# EAGLE library part LPC1313FBD48/01 (library LPC1313)
CORTEX-M MICROCONTROLLER
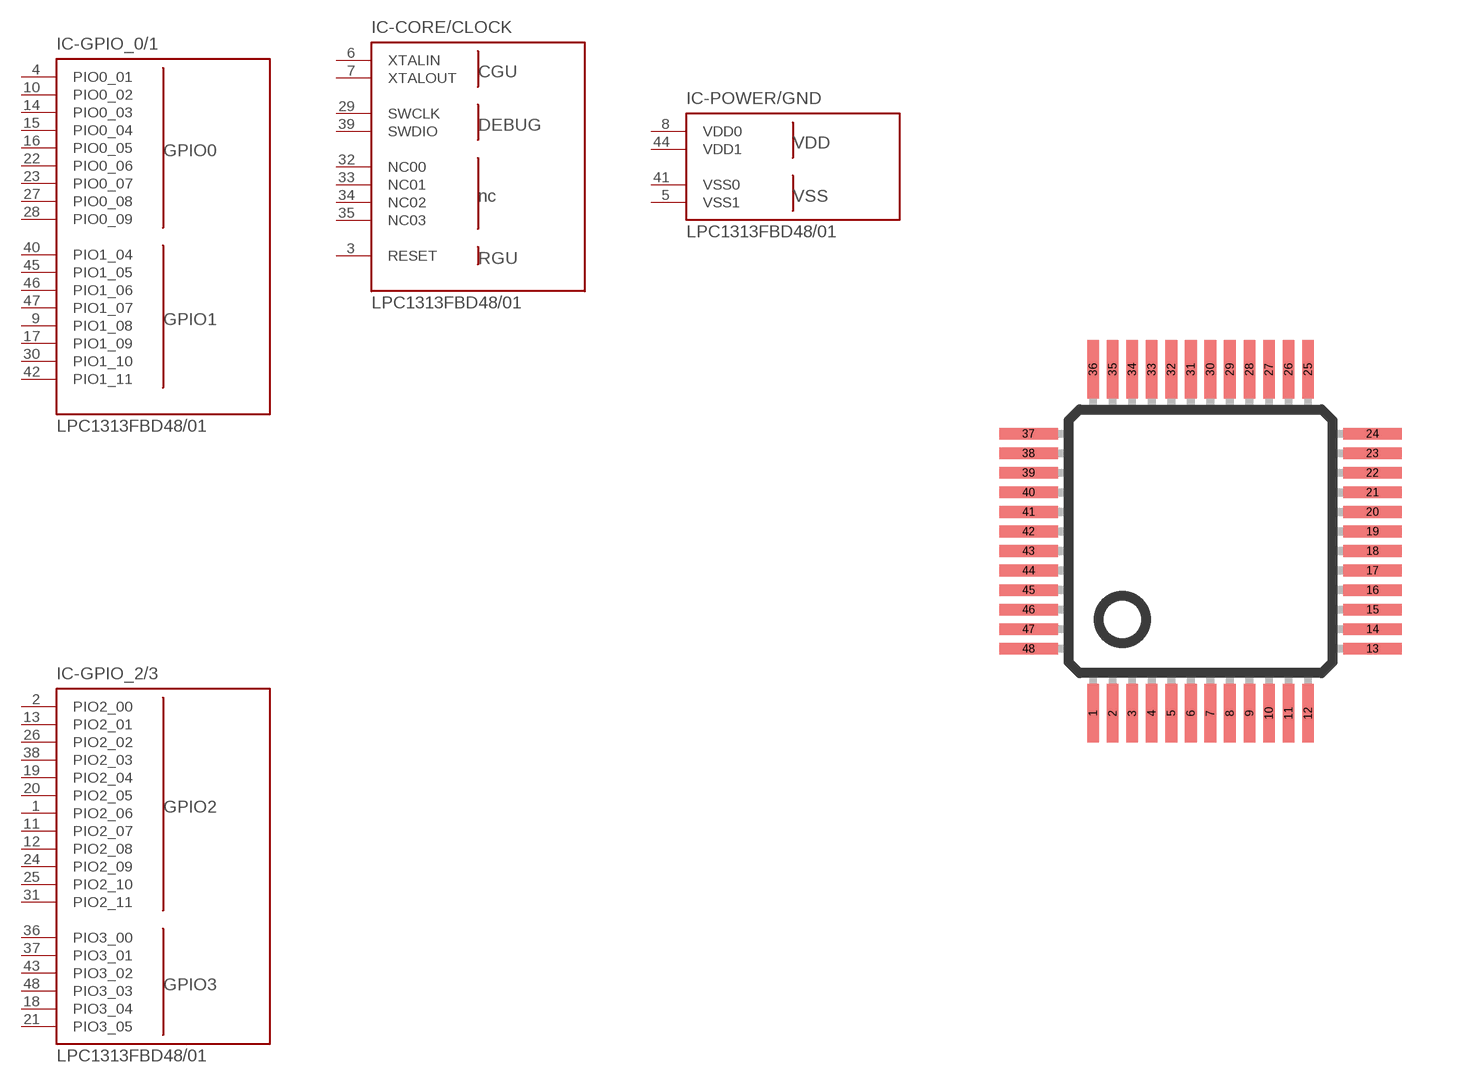
[diagram p0: symbol with the pads of LQFP48; footprint LQFP48]

Designator prefix IC; gates -CORE/CLOCK=CORE/CLOCK -GPIO_0/1=GPIO_0/1 -GPIO_2/3=GPIO_2/3 -POWER/GND=POWER/GND

## LPC1313FBD48/01 (MF: NTE ELECTRONICS)  [LQFP48]
1  -GPIO_2/3:PIO2_06
2  -GPIO_2/3:PIO2_00
3  -CORE/CLOCK:RESET  in
4  -GPIO_0/1:PIO0_01
5  -POWER/GND:VSS1  pwr
6  -CORE/CLOCK:XTALIN  in
7  -CORE/CLOCK:XTALOUT  out
8  -POWER/GND:VDD0  pwr
9  -GPIO_0/1:PIO1_08
10  -GPIO_0/1:PIO0_02
11  -GPIO_2/3:PIO2_07
12  -GPIO_2/3:PIO2_08
13  -GPIO_2/3:PIO2_01
14  -GPIO_0/1:PIO0_03
15  -GPIO_0/1:PIO0_04
16  -GPIO_0/1:PIO0_05
17  -GPIO_0/1:PIO1_09
18  -GPIO_2/3:PIO3_04
19  -GPIO_2/3:PIO2_04
20  -GPIO_2/3:PIO2_05
21  -GPIO_2/3:PIO3_05
22  -GPIO_0/1:PIO0_06
23  -GPIO_0/1:PIO0_07
24  -GPIO_2/3:PIO2_09
25  -GPIO_2/3:PIO2_10
26  -GPIO_2/3:PIO2_02
27  -GPIO_0/1:PIO0_08
28  -GPIO_0/1:PIO0_09
29  -CORE/CLOCK:SWCLK  in
30  -GPIO_0/1:PIO1_10
31  -GPIO_2/3:PIO2_11
32  -CORE/CLOCK:NC00  out
33  -CORE/CLOCK:NC01  out
34  -CORE/CLOCK:NC02  out
35  -CORE/CLOCK:NC03  out
36  -GPIO_2/3:PIO3_00
37  -GPIO_2/3:PIO3_01
38  -GPIO_2/3:PIO2_03
39  -CORE/CLOCK:SWDIO  in
40  -GPIO_0/1:PIO1_04
41  -POWER/GND:VSS0  pwr
42  -GPIO_0/1:PIO1_11
43  -GPIO_2/3:PIO3_02
44  -POWER/GND:VDD1  pwr
45  -GPIO_0/1:PIO1_05
46  -GPIO_0/1:PIO1_06
47  -GPIO_0/1:PIO1_07
48  -GPIO_2/3:PIO3_03

## Footprint LQFP48 (pad centres in mm)
LQFP48 - Low Profile Quad Flat Package SOT313-2
smd 0.3 x 1.5: 1 -2.75,-4.4; 2 -2.25,-4.4; 3 -1.75,-4.4; 4 -1.25,-4.4; 5 -0.75,-4.4; 6 -0.25,-4.4; 7 0.25,-4.4; 8 0.75,-4.4; 9 1.25,-4.4; 10 1.75,-4.4; 11 2.25,-4.4; 12 2.75,-4.4; 25 2.75,4.4; 26 2.25,4.4; 27 1.75,4.4; 28 1.25,4.4; 29 0.75,4.4; 30 0.25,4.4; 31 -0.25,4.4; 32 -0.75,4.4; 33 -1.25,4.4; 34 -1.75,4.4; 35 -2.25,4.4; 36 -2.75,4.4
smd 1.5 x 0.3: 13 4.4,-2.75; 14 4.4,-2.25; 15 4.4,-1.75; 16 4.4,-1.25; 17 4.4,-0.75; 18 4.4,-0.25; 19 4.4,0.25; 20 4.4,0.75; 21 4.4,1.25; 22 4.4,1.75; 23 4.4,2.25; 24 4.4,2.75; 37 -4.4,2.75; 38 -4.4,2.25; 39 -4.4,1.75; 40 -4.4,1.25; 41 -4.4,0.75; 42 -4.4,0.25; 43 -4.4,-0.25; 44 -4.4,-0.75; 45 -4.4,-1.25; 46 -4.4,-1.75; 47 -4.4,-2.25; 48 -4.4,-2.75